# Altium schematic symbol library NSi8100NC.SchLib: 1 symbol
Pins are listed as number, name and electrical type; pins without a type are passive.

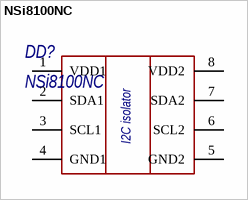
[diagram p0: symbol NSi8100NC]

## NSi8100NC
designator DD?, comment NSi8100NС
pins: 1 VDD1, 2 SDA1, 3 SCL1, 4 GND1, 5 GND2, 6 SCL2, 7 SDA2, 8 VDD2
text: I2C isolator